# Altium schematic symbol library kmilo17pet-TI_RS232.SchLib: 1272 symbols (part 21 of 37)
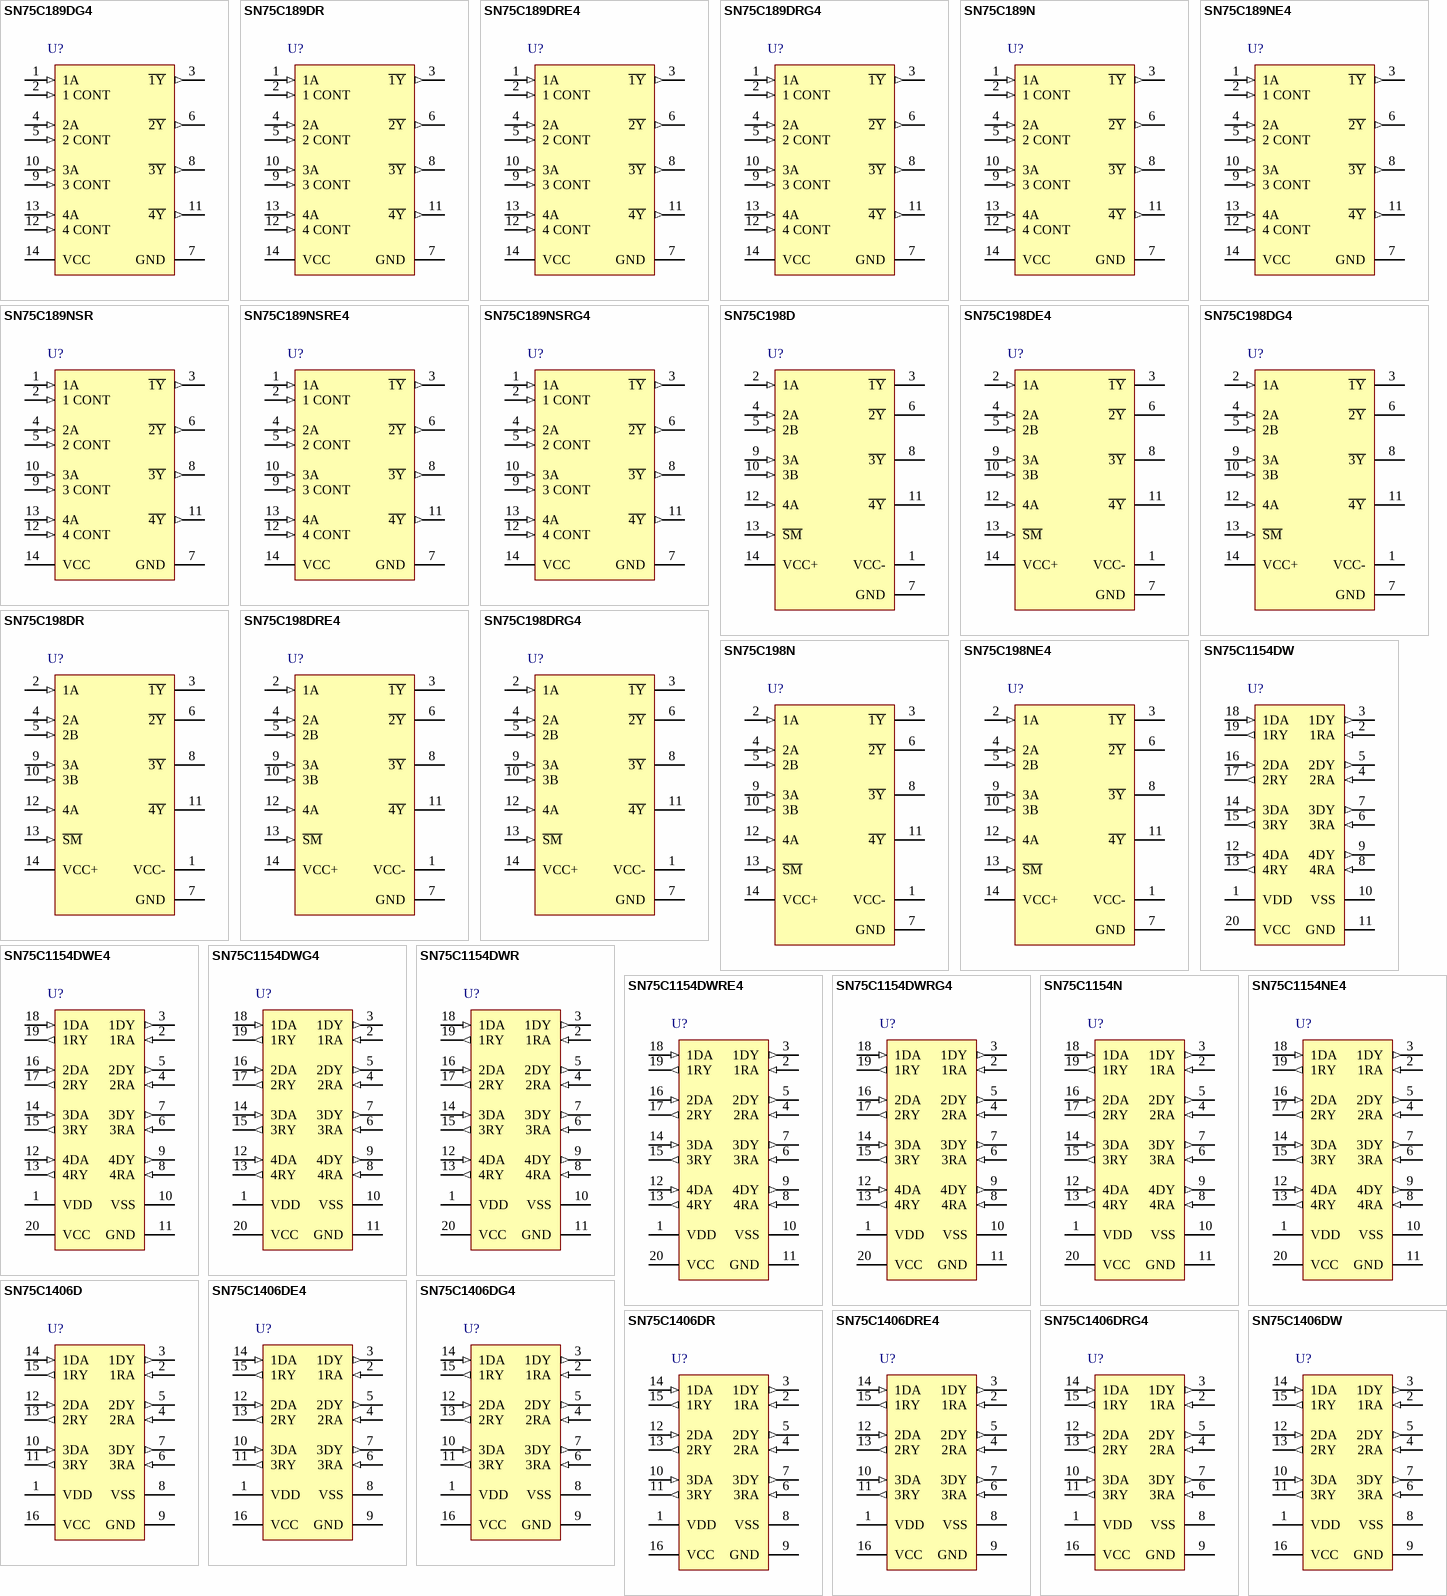
[diagram p74: symbols SN75C189DG4 to SN75C1406DW]

## SN75C189N
designator U?
Quadruple Low-Power LIine Receiver, 0 to 70 degC, 14-Pin  PDIP (N),  Pb-Free (RoHS); SubFamily: RS-232; Receivers Per Package: 4; Supply Voltage(s)(V): 5; ICC(Max)(mA): 0.7; Single Supply: TRUE; DatasheetVersion: SLLS041G; PackageVersion: revE, Dec-2002; PackageReference: N14; PackageDescription: 14-Pin Plastic Dual-In-Line Package, Row Spacing 7.62 mm, Pitch 2.54 mm; RS-232: TRUE; ComponentLink1Description: Manufacturer URL; ComponentLink1URL: www.ti.com; ComponentLink2Description: Datasheet; ComponentLink2URL: http://www.ti.com/general/docs/lit/getliterature.tsp?genericPartNumber=SN75C189&fileType=pdf; ComponentLink3Description: Package Specification; ComponentLink3URL: http://www.ti.com/litv/pdf/mpdi002c
footprint TI-N14 (DIP, 14-Leads, Row Spacing 7.62mm, Pitch 2.54mm, Body 19.3x6.4mm)
pins: 1 1A (in), 2 1 CONT (in), 3 ~{1Y} (out), 4 2A (in), 5 2 CONT (in), 6 ~{2Y} (out), 7 GND (power), 8 ~{3Y} (out), 9 3 CONT (in), 10 3A (in), 11 ~{4Y} (out), 12 4 CONT (in), 13 4A (in), 14 VCC (power)

## SN75C189NE4
designator U?
Quadruple Low-Power LIine Receiver, 0 to 70 degC, 14-Pin  PDIP (N),  Pb-Free (RoHS); SubFamily: RS-232; Receivers Per Package: 4; Supply Voltage(s)(V): 5; ICC(Max)(mA): 0.7; Single Supply: TRUE; DatasheetVersion: SLLS041G; PackageVersion: revE, Dec-2002; PackageReference: N14; PackageDescription: 14-Pin Plastic Dual-In-Line Package, Row Spacing 7.62 mm, Pitch 2.54 mm; RS-232: TRUE; ComponentLink1Description: Manufacturer URL; ComponentLink1URL: www.ti.com; ComponentLink2Description: Datasheet; ComponentLink2URL: http://www.ti.com/general/docs/lit/getliterature.tsp?genericPartNumber=SN75C189&fileType=pdf; ComponentLink3Description: Package Specification; ComponentLink3URL: http://www.ti.com/litv/pdf/mpdi002c
footprint TI-N14 (DIP, 14-Leads, Row Spacing 7.62mm, Pitch 2.54mm, Body 19.3x6.4mm)
pins: 1 1A (in), 2 1 CONT (in), 3 ~{1Y} (out), 4 2A (in), 5 2 CONT (in), 6 ~{2Y} (out), 7 GND (power), 8 ~{3Y} (out), 9 3 CONT (in), 10 3A (in), 11 ~{4Y} (out), 12 4 CONT (in), 13 4A (in), 14 VCC (power)

## SN75C189NSR
designator U?
Quadruple Low-Power LIine Receiver, 0 to 70 degC, 14-Pin  SO (NS),  Green (RoHS & no Sb/Br); SubFamily: RS-232; Receivers Per Package: 4; Supply Voltage(s)(V): 5; ICC(Max)(mA): 0.7; Single Supply: TRUE; DatasheetVersion: SLLS041G; PackageVersion: revC, Mar-2003; PackageReference: NS14; PackageDescription: 14-Pin Plastic Small Outline Package, 10.2 x 5.3 mm Body, 1.27 mm Pitch; RS-232: TRUE; ComponentLink1Description: Manufacturer URL; ComponentLink1URL: www.ti.com; ComponentLink2Description: Datasheet; ComponentLink2URL: http://www.ti.com/general/docs/lit/getliterature.tsp?genericPartNumber=SN75C189&fileType=pdf; ComponentLink3Description: Package Specification; ComponentLink3URL: http://www.ti.com/litv/pdf/msop002a
footprint TI-NS14_N (SOP, 14-Leads, Body 10.2x5.3mm, Pitch 1.27mm, IPC Medium Density)
footprint TI-NS14_L (SOP, 14-Leads, Body 10.2x5.3mm, Pitch 1.27mm, IPC High Density)
footprint TI-NS14_M (SOP, 14-Leads, Body 10.2x5.3mm, Pitch 1.27mm, IPC Low Density)
pins: 1 1A (in), 2 1 CONT (in), 3 ~{1Y} (out), 4 2A (in), 5 2 CONT (in), 6 ~{2Y} (out), 7 GND (power), 8 ~{3Y} (out), 9 3 CONT (in), 10 3A (in), 11 ~{4Y} (out), 12 4 CONT (in), 13 4A (in), 14 VCC (power)

## SN75C189NSRE4
designator U?
Quadruple Low-Power LIine Receiver, 0 to 70 degC, 14-Pin  SO (NS),  Green (RoHS & no Sb/Br); SubFamily: RS-232; Receivers Per Package: 4; Supply Voltage(s)(V): 5; ICC(Max)(mA): 0.7; Single Supply: TRUE; DatasheetVersion: SLLS041G; PackageVersion: revC, Mar-2003; PackageReference: NS14; PackageDescription: 14-Pin Plastic Small Outline Package, 10.2 x 5.3 mm Body, 1.27 mm Pitch; RS-232: TRUE; ComponentLink1Description: Manufacturer URL; ComponentLink1URL: www.ti.com; ComponentLink2Description: Datasheet; ComponentLink2URL: http://www.ti.com/general/docs/lit/getliterature.tsp?genericPartNumber=SN75C189&fileType=pdf; ComponentLink3Description: Package Specification; ComponentLink3URL: http://www.ti.com/litv/pdf/msop002a
footprint TI-NS14_N (SOP, 14-Leads, Body 10.2x5.3mm, Pitch 1.27mm, IPC Medium Density)
footprint TI-NS14_L (SOP, 14-Leads, Body 10.2x5.3mm, Pitch 1.27mm, IPC High Density)
footprint TI-NS14_M (SOP, 14-Leads, Body 10.2x5.3mm, Pitch 1.27mm, IPC Low Density)
pins: 1 1A (in), 2 1 CONT (in), 3 ~{1Y} (out), 4 2A (in), 5 2 CONT (in), 6 ~{2Y} (out), 7 GND (power), 8 ~{3Y} (out), 9 3 CONT (in), 10 3A (in), 11 ~{4Y} (out), 12 4 CONT (in), 13 4A (in), 14 VCC (power)

## SN75C189NSRG4
designator U?
Quadruple Low-Power LIine Receiver, 0 to 70 degC, 14-Pin  SO (NS),  Green (RoHS & no Sb/Br); SubFamily: RS-232; Receivers Per Package: 4; Supply Voltage(s)(V): 5; ICC(Max)(mA): 0.7; Single Supply: TRUE; DatasheetVersion: SLLS041G; PackageVersion: revC, Mar-2003; PackageReference: NS14; PackageDescription: 14-Pin Plastic Small Outline Package, 10.2 x 5.3 mm Body, 1.27 mm Pitch; RS-232: TRUE; ComponentLink1Description: Manufacturer URL; ComponentLink1URL: www.ti.com; ComponentLink2Description: Datasheet; ComponentLink2URL: http://www.ti.com/general/docs/lit/getliterature.tsp?genericPartNumber=SN75C189&fileType=pdf; ComponentLink3Description: Package Specification; ComponentLink3URL: http://www.ti.com/litv/pdf/msop002a
footprint TI-NS14_N (SOP, 14-Leads, Body 10.2x5.3mm, Pitch 1.27mm, IPC Medium Density)
footprint TI-NS14_L (SOP, 14-Leads, Body 10.2x5.3mm, Pitch 1.27mm, IPC High Density)
footprint TI-NS14_M (SOP, 14-Leads, Body 10.2x5.3mm, Pitch 1.27mm, IPC Low Density)
pins: 1 1A (in), 2 1 CONT (in), 3 ~{1Y} (out), 4 2A (in), 5 2 CONT (in), 6 ~{2Y} (out), 7 GND (power), 8 ~{3Y} (out), 9 3 CONT (in), 10 3A (in), 11 ~{4Y} (out), 12 4 CONT (in), 13 4A (in), 14 VCC (power)

## SN75C198D
designator U?
Quadruple Low-Power Line Driver, 0 to 70 degC, 14-Pin  SOIC (D),  Green (RoHS & no Sb/Br); SubFamily: RS-232; Drivers Per Package: 4; Supply Voltage(s)(V): +/-12.0; ICC(Max)(mA): +/-0.16; RS-232: TRUE; DatasheetVersion: SLLS051C; PackageVersion: revM, Jun-2011; PackageReference: D14; PackageDescription: 14-Pin Plastic Small Outline Integrated Circuit, 8.7 x 3.9 mm, Pitch 1.27 mm Pitch; ComponentLink1Description: Manufacturer URL; ComponentLink1URL: www.ti.com; ComponentLink2Description: Datasheet; ComponentLink2URL: http://www.ti.com/general/docs/lit/getliterature.tsp?genericPartNumber=SN75C198&fileType=pdf; ComponentLink3Description: Package Specification; ComponentLink3URL: http://www.ti.com/litv/pdf/mpds177g
footprint TI-D14_N (SOIC, 14-Leads, Body 8.7x3.9mm, Pitch 1.27mm, IPC Medium Density)
footprint TI-D14_L (SOIC, 14-Leads, Body 8.7x3.9mm, Pitch 1.27mm, IPC High Density)
footprint TI-D14_M (SOIC, 14-Leads, Body 8.7x3.9mm, Pitch 1.27mm, IPC Low Density)
pins: 1 VCC- (power), 2 1A (in), 3 ~{1Y} (hiz), 4 2A (in), 5 2B (in), 6 ~{2Y} (hiz), 7 GND (power), 8 ~{3Y} (hiz), 9 3A (in), 10 3B (in), 11 ~{4Y} (hiz), 12 4A (in), 13 ~{SM} (in), 14 VCC+ (power)

## SN75C198DE4
designator U?
Quadruple Low-Power Line Driver, 0 to 70 degC, 14-Pin  SOIC (D),  Green (RoHS & no Sb/Br); SubFamily: RS-232; Drivers Per Package: 4; Supply Voltage(s)(V): +/-12.0; ICC(Max)(mA): +/-0.16; RS-232: TRUE; DatasheetVersion: SLLS051C; PackageVersion: revM, Jun-2011; PackageReference: D14; PackageDescription: 14-Pin Plastic Small Outline Integrated Circuit, 8.7 x 3.9 mm, Pitch 1.27 mm Pitch; ComponentLink1Description: Manufacturer URL; ComponentLink1URL: www.ti.com; ComponentLink2Description: Datasheet; ComponentLink2URL: http://www.ti.com/general/docs/lit/getliterature.tsp?genericPartNumber=SN75C198&fileType=pdf; ComponentLink3Description: Package Specification; ComponentLink3URL: http://www.ti.com/litv/pdf/mpds177g
footprint TI-D14_N (SOIC, 14-Leads, Body 8.7x3.9mm, Pitch 1.27mm, IPC Medium Density)
footprint TI-D14_L (SOIC, 14-Leads, Body 8.7x3.9mm, Pitch 1.27mm, IPC High Density)
footprint TI-D14_M (SOIC, 14-Leads, Body 8.7x3.9mm, Pitch 1.27mm, IPC Low Density)
pins: 1 VCC- (power), 2 1A (in), 3 ~{1Y} (hiz), 4 2A (in), 5 2B (in), 6 ~{2Y} (hiz), 7 GND (power), 8 ~{3Y} (hiz), 9 3A (in), 10 3B (in), 11 ~{4Y} (hiz), 12 4A (in), 13 ~{SM} (in), 14 VCC+ (power)

## SN75C198DG4
designator U?
Quadruple Low-Power Line Driver, 0 to 70 degC, 14-Pin  SOIC (D),  Green (RoHS & no Sb/Br); SubFamily: RS-232; Drivers Per Package: 4; Supply Voltage(s)(V): +/-12.0; ICC(Max)(mA): +/-0.16; RS-232: TRUE; DatasheetVersion: SLLS051C; PackageVersion: revM, Jun-2011; PackageReference: D14; PackageDescription: 14-Pin Plastic Small Outline Integrated Circuit, 8.7 x 3.9 mm, Pitch 1.27 mm Pitch; ComponentLink1Description: Manufacturer URL; ComponentLink1URL: www.ti.com; ComponentLink2Description: Datasheet; ComponentLink2URL: http://www.ti.com/general/docs/lit/getliterature.tsp?genericPartNumber=SN75C198&fileType=pdf; ComponentLink3Description: Package Specification; ComponentLink3URL: http://www.ti.com/litv/pdf/mpds177g
footprint TI-D14_N (SOIC, 14-Leads, Body 8.7x3.9mm, Pitch 1.27mm, IPC Medium Density)
footprint TI-D14_L (SOIC, 14-Leads, Body 8.7x3.9mm, Pitch 1.27mm, IPC High Density)
footprint TI-D14_M (SOIC, 14-Leads, Body 8.7x3.9mm, Pitch 1.27mm, IPC Low Density)
pins: 1 VCC- (power), 2 1A (in), 3 ~{1Y} (hiz), 4 2A (in), 5 2B (in), 6 ~{2Y} (hiz), 7 GND (power), 8 ~{3Y} (hiz), 9 3A (in), 10 3B (in), 11 ~{4Y} (hiz), 12 4A (in), 13 ~{SM} (in), 14 VCC+ (power)

## SN75C198DR
designator U?
Quadruple Low-Power Line Driver, 0 to 70 degC, 14-Pin  SOIC (D),  Green (RoHS & no Sb/Br); SubFamily: RS-232; Drivers Per Package: 4; Supply Voltage(s)(V): +/-12.0; ICC(Max)(mA): +/-0.16; RS-232: TRUE; DatasheetVersion: SLLS051C; PackageVersion: revM, Jun-2011; PackageReference: D14; PackageDescription: 14-Pin Plastic Small Outline Integrated Circuit, 8.7 x 3.9 mm, Pitch 1.27 mm Pitch; ComponentLink1Description: Manufacturer URL; ComponentLink1URL: www.ti.com; ComponentLink2Description: Datasheet; ComponentLink2URL: http://www.ti.com/general/docs/lit/getliterature.tsp?genericPartNumber=SN75C198&fileType=pdf; ComponentLink3Description: Package Specification; ComponentLink3URL: http://www.ti.com/litv/pdf/mpds177g
footprint TI-D14_N (SOIC, 14-Leads, Body 8.7x3.9mm, Pitch 1.27mm, IPC Medium Density)
footprint TI-D14_L (SOIC, 14-Leads, Body 8.7x3.9mm, Pitch 1.27mm, IPC High Density)
footprint TI-D14_M (SOIC, 14-Leads, Body 8.7x3.9mm, Pitch 1.27mm, IPC Low Density)
pins: 1 VCC- (power), 2 1A (in), 3 ~{1Y} (hiz), 4 2A (in), 5 2B (in), 6 ~{2Y} (hiz), 7 GND (power), 8 ~{3Y} (hiz), 9 3A (in), 10 3B (in), 11 ~{4Y} (hiz), 12 4A (in), 13 ~{SM} (in), 14 VCC+ (power)

## SN75C198DRE4
designator U?
Quadruple Low-Power Line Driver, 0 to 70 degC, 14-Pin  SOIC (D),  Green (RoHS & no Sb/Br); SubFamily: RS-232; Drivers Per Package: 4; Supply Voltage(s)(V): +/-12.0; ICC(Max)(mA): +/-0.16; RS-232: TRUE; DatasheetVersion: SLLS051C; PackageVersion: revM, Jun-2011; PackageReference: D14; PackageDescription: 14-Pin Plastic Small Outline Integrated Circuit, 8.7 x 3.9 mm, Pitch 1.27 mm Pitch; ComponentLink1Description: Manufacturer URL; ComponentLink1URL: www.ti.com; ComponentLink2Description: Datasheet; ComponentLink2URL: http://www.ti.com/general/docs/lit/getliterature.tsp?genericPartNumber=SN75C198&fileType=pdf; ComponentLink3Description: Package Specification; ComponentLink3URL: http://www.ti.com/litv/pdf/mpds177g
footprint TI-D14_N (SOIC, 14-Leads, Body 8.7x3.9mm, Pitch 1.27mm, IPC Medium Density)
footprint TI-D14_L (SOIC, 14-Leads, Body 8.7x3.9mm, Pitch 1.27mm, IPC High Density)
footprint TI-D14_M (SOIC, 14-Leads, Body 8.7x3.9mm, Pitch 1.27mm, IPC Low Density)
pins: 1 VCC- (power), 2 1A (in), 3 ~{1Y} (hiz), 4 2A (in), 5 2B (in), 6 ~{2Y} (hiz), 7 GND (power), 8 ~{3Y} (hiz), 9 3A (in), 10 3B (in), 11 ~{4Y} (hiz), 12 4A (in), 13 ~{SM} (in), 14 VCC+ (power)

## SN75C198DRG4
designator U?
Quadruple Low-Power Line Driver, 0 to 70 degC, 14-Pin  SOIC (D),  Green (RoHS & no Sb/Br); SubFamily: RS-232; Drivers Per Package: 4; Supply Voltage(s)(V): +/-12.0; ICC(Max)(mA): +/-0.16; RS-232: TRUE; DatasheetVersion: SLLS051C; PackageVersion: revM, Jun-2011; PackageReference: D14; PackageDescription: 14-Pin Plastic Small Outline Integrated Circuit, 8.7 x 3.9 mm, Pitch 1.27 mm Pitch; ComponentLink1Description: Manufacturer URL; ComponentLink1URL: www.ti.com; ComponentLink2Description: Datasheet; ComponentLink2URL: http://www.ti.com/general/docs/lit/getliterature.tsp?genericPartNumber=SN75C198&fileType=pdf; ComponentLink3Description: Package Specification; ComponentLink3URL: http://www.ti.com/litv/pdf/mpds177g
footprint TI-D14_N (SOIC, 14-Leads, Body 8.7x3.9mm, Pitch 1.27mm, IPC Medium Density)
footprint TI-D14_L (SOIC, 14-Leads, Body 8.7x3.9mm, Pitch 1.27mm, IPC High Density)
footprint TI-D14_M (SOIC, 14-Leads, Body 8.7x3.9mm, Pitch 1.27mm, IPC Low Density)
pins: 1 VCC- (power), 2 1A (in), 3 ~{1Y} (hiz), 4 2A (in), 5 2B (in), 6 ~{2Y} (hiz), 7 GND (power), 8 ~{3Y} (hiz), 9 3A (in), 10 3B (in), 11 ~{4Y} (hiz), 12 4A (in), 13 ~{SM} (in), 14 VCC+ (power)

## SN75C198N
designator U?
Quadruple Low-Power Line Driver, 0 to 70 degC, 14-Pin  PDIP (N),  Pb-Free (RoHS); SubFamily: RS-232; Drivers Per Package: 4; Supply Voltage(s)(V): +/-12.0; ICC(Max)(mA): +/-0.16; RS-232: TRUE; DatasheetVersion: SLLS051C; PackageVersion: revE, Dec-2002; PackageReference: N14; PackageDescription: 14-Pin Plastic Dual-In-Line Package, Row Spacing 7.62 mm, Pitch 2.54 mm; ComponentLink1Description: Manufacturer URL; ComponentLink1URL: www.ti.com; ComponentLink2Description: Datasheet; ComponentLink2URL: http://www.ti.com/general/docs/lit/getliterature.tsp?genericPartNumber=SN75C198&fileType=pdf; ComponentLink3Description: Package Specification; ComponentLink3URL: http://www.ti.com/litv/pdf/mpdi002c
footprint TI-N14 (DIP, 14-Leads, Row Spacing 7.62mm, Pitch 2.54mm, Body 19.3x6.4mm)
pins: 1 VCC- (power), 2 1A (in), 3 ~{1Y} (hiz), 4 2A (in), 5 2B (in), 6 ~{2Y} (hiz), 7 GND (power), 8 ~{3Y} (hiz), 9 3A (in), 10 3B (in), 11 ~{4Y} (hiz), 12 4A (in), 13 ~{SM} (in), 14 VCC+ (power)

## SN75C198NE4
designator U?
Quadruple Low-Power Line Driver, 0 to 70 degC, 14-Pin  PDIP (N),  Pb-Free (RoHS); SubFamily: RS-232; Drivers Per Package: 4; Supply Voltage(s)(V): +/-12.0; ICC(Max)(mA): +/-0.16; RS-232: TRUE; DatasheetVersion: SLLS051C; PackageVersion: revE, Dec-2002; PackageReference: N14; PackageDescription: 14-Pin Plastic Dual-In-Line Package, Row Spacing 7.62 mm, Pitch 2.54 mm; ComponentLink1Description: Manufacturer URL; ComponentLink1URL: www.ti.com; ComponentLink2Description: Datasheet; ComponentLink2URL: http://www.ti.com/general/docs/lit/getliterature.tsp?genericPartNumber=SN75C198&fileType=pdf; ComponentLink3Description: Package Specification; ComponentLink3URL: http://www.ti.com/litv/pdf/mpdi002c
footprint TI-N14 (DIP, 14-Leads, Row Spacing 7.62mm, Pitch 2.54mm, Body 19.3x6.4mm)
pins: 1 VCC- (power), 2 1A (in), 3 ~{1Y} (hiz), 4 2A (in), 5 2B (in), 6 ~{2Y} (hiz), 7 GND (power), 8 ~{3Y} (hiz), 9 3A (in), 10 3B (in), 11 ~{4Y} (hiz), 12 4A (in), 13 ~{SM} (in), 14 VCC+ (power)

## SN75C1154DW
designator U?
Quadruple Low-Power Driver / Receiver, 0 to 70 degC, 20-Pin SOIC (DW), Green (RoHS & no Sb/Br); SubFamily: RS-232; Drivers Per Package: 4; Supply Voltage(s)(V): +/-12.0 & 5.0; ICC(Max)(mA): +/-0.25; RS-232: TRUE; DatasheetVersion: SLLS151D; PackageVersion: revG, Jan-2011; PackageReference: DW20; PackageDescription: 20-Pin Plastic Small Outline Integrated Circuit, 12.8 x 7.5 mm, Pitch 1.27 mm Pitch; Receivers Per Package: 4; ComponentLink1Description: Manufacturer URL; ComponentLink1URL: www.ti.com; ComponentLink2Description: Datasheet; ComponentLink2URL: http://www.ti.com/general/docs/lit/getliterature.tsp?genericPartNumber=SN75C1154&fileType=pdf; ComponentLink3Description: Package Specification; ComponentLink3URL: http://www.ti.com/litv/pdf/mpds173a
footprint TI-DW20_N (SOIC, 20-Leads, Body 12.8x7.5mm, Pitch 1.27mm, IPC Medium Density)
footprint TI-DW20_L (SOIC, 20-Leads, Body 12.8x7.5mm, Pitch 1.27mm, IPC High Density)
footprint TI-DW20_M (SOIC, 20-Leads, Body 12.8x7.5mm, Pitch 1.27mm, IPC Low Density)
pins: 1 VDD (power), 2 1RA (in), 3 1DY (out), 4 2RA (in), 5 2DY (out), 6 3RA (in), 7 3DY (out), 8 4RA (in), 9 4DY (out), 10 VSS (power), 11 GND (power), 12 4DA (in), 13 4RY (out), 14 3DA (in), 15 3RY (out), 16 2DA (in), 17 2RY (out), 18 1DA (in), 19 1RY (out), 20 VCC (power)

## SN75C1154DWE4
designator U?
Quadruple Low-Power Driver / Receiver, 0 to 70 degC, 20-Pin SOIC (DW), Green (RoHS & no Sb/Br); SubFamily: RS-232; Drivers Per Package: 4; Supply Voltage(s)(V): +/-12.0 & 5.0; ICC(Max)(mA): +/-0.25; RS-232: TRUE; DatasheetVersion: SLLS151D; PackageVersion: revG, Jan-2011; PackageReference: DW20; PackageDescription: 20-Pin Plastic Small Outline Integrated Circuit, 12.8 x 7.5 mm, Pitch 1.27 mm Pitch; Receivers Per Package: 4; ComponentLink1Description: Manufacturer URL; ComponentLink1URL: www.ti.com; ComponentLink2Description: Datasheet; ComponentLink2URL: http://www.ti.com/general/docs/lit/getliterature.tsp?genericPartNumber=SN75C1154&fileType=pdf; ComponentLink3Description: Package Specification; ComponentLink3URL: http://www.ti.com/litv/pdf/mpds173a
footprint TI-DW20_N (SOIC, 20-Leads, Body 12.8x7.5mm, Pitch 1.27mm, IPC Medium Density)
footprint TI-DW20_L (SOIC, 20-Leads, Body 12.8x7.5mm, Pitch 1.27mm, IPC High Density)
footprint TI-DW20_M (SOIC, 20-Leads, Body 12.8x7.5mm, Pitch 1.27mm, IPC Low Density)
pins: 1 VDD (power), 2 1RA (in), 3 1DY (out), 4 2RA (in), 5 2DY (out), 6 3RA (in), 7 3DY (out), 8 4RA (in), 9 4DY (out), 10 VSS (power), 11 GND (power), 12 4DA (in), 13 4RY (out), 14 3DA (in), 15 3RY (out), 16 2DA (in), 17 2RY (out), 18 1DA (in), 19 1RY (out), 20 VCC (power)

## SN75C1154DWG4
designator U?
Quadruple Low-Power Driver / Receiver, 0 to 70 degC, 20-Pin SOIC (DW), Green (RoHS & no Sb/Br); SubFamily: RS-232; Drivers Per Package: 4; Supply Voltage(s)(V): +/-12.0 & 5.0; ICC(Max)(mA): +/-0.25; RS-232: TRUE; DatasheetVersion: SLLS151D; PackageVersion: revG, Jan-2011; PackageReference: DW20; PackageDescription: 20-Pin Plastic Small Outline Integrated Circuit, 12.8 x 7.5 mm, Pitch 1.27 mm Pitch; Receivers Per Package: 4; ComponentLink1Description: Manufacturer URL; ComponentLink1URL: www.ti.com; ComponentLink2Description: Datasheet; ComponentLink2URL: http://www.ti.com/general/docs/lit/getliterature.tsp?genericPartNumber=SN75C1154&fileType=pdf; ComponentLink3Description: Package Specification; ComponentLink3URL: http://www.ti.com/litv/pdf/mpds173a
footprint TI-DW20_N (SOIC, 20-Leads, Body 12.8x7.5mm, Pitch 1.27mm, IPC Medium Density)
footprint TI-DW20_L (SOIC, 20-Leads, Body 12.8x7.5mm, Pitch 1.27mm, IPC High Density)
footprint TI-DW20_M (SOIC, 20-Leads, Body 12.8x7.5mm, Pitch 1.27mm, IPC Low Density)
pins: 1 VDD (power), 2 1RA (in), 3 1DY (out), 4 2RA (in), 5 2DY (out), 6 3RA (in), 7 3DY (out), 8 4RA (in), 9 4DY (out), 10 VSS (power), 11 GND (power), 12 4DA (in), 13 4RY (out), 14 3DA (in), 15 3RY (out), 16 2DA (in), 17 2RY (out), 18 1DA (in), 19 1RY (out), 20 VCC (power)

## SN75C1154DWR
designator U?
Quadruple Low-Power Driver / Receiver, 0 to 70 degC, 20-Pin SOIC (DW), Green (RoHS & no Sb/Br); SubFamily: RS-232; Drivers Per Package: 4; Supply Voltage(s)(V): +/-12.0 & 5.0; ICC(Max)(mA): +/-0.25; RS-232: TRUE; DatasheetVersion: SLLS151D; PackageVersion: revG, Jan-2011; PackageReference: DW20; PackageDescription: 20-Pin Plastic Small Outline Integrated Circuit, 12.8 x 7.5 mm, Pitch 1.27 mm Pitch; Receivers Per Package: 4; ComponentLink1Description: Manufacturer URL; ComponentLink1URL: www.ti.com; ComponentLink2Description: Datasheet; ComponentLink2URL: http://www.ti.com/general/docs/lit/getliterature.tsp?genericPartNumber=SN75C1154&fileType=pdf; ComponentLink3Description: Package Specification; ComponentLink3URL: http://www.ti.com/litv/pdf/mpds173a
footprint TI-DW20_N (SOIC, 20-Leads, Body 12.8x7.5mm, Pitch 1.27mm, IPC Medium Density)
footprint TI-DW20_L (SOIC, 20-Leads, Body 12.8x7.5mm, Pitch 1.27mm, IPC High Density)
footprint TI-DW20_M (SOIC, 20-Leads, Body 12.8x7.5mm, Pitch 1.27mm, IPC Low Density)
pins: 1 VDD (power), 2 1RA (in), 3 1DY (out), 4 2RA (in), 5 2DY (out), 6 3RA (in), 7 3DY (out), 8 4RA (in), 9 4DY (out), 10 VSS (power), 11 GND (power), 12 4DA (in), 13 4RY (out), 14 3DA (in), 15 3RY (out), 16 2DA (in), 17 2RY (out), 18 1DA (in), 19 1RY (out), 20 VCC (power)

## SN75C1154DWRE4
designator U?
Quadruple Low-Power Driver / Receiver, 0 to 70 degC, 20-Pin SOIC (DW), Green (RoHS & no Sb/Br); SubFamily: RS-232; Drivers Per Package: 4; Supply Voltage(s)(V): +/-12.0 & 5.0; ICC(Max)(mA): +/-0.25; RS-232: TRUE; DatasheetVersion: SLLS151D; PackageVersion: revG, Jan-2011; PackageReference: DW20; PackageDescription: 20-Pin Plastic Small Outline Integrated Circuit, 12.8 x 7.5 mm, Pitch 1.27 mm Pitch; Receivers Per Package: 4; ComponentLink1Description: Manufacturer URL; ComponentLink1URL: www.ti.com; ComponentLink2Description: Datasheet; ComponentLink2URL: http://www.ti.com/general/docs/lit/getliterature.tsp?genericPartNumber=SN75C1154&fileType=pdf; ComponentLink3Description: Package Specification; ComponentLink3URL: http://www.ti.com/litv/pdf/mpds173a
footprint TI-DW20_N (SOIC, 20-Leads, Body 12.8x7.5mm, Pitch 1.27mm, IPC Medium Density)
footprint TI-DW20_L (SOIC, 20-Leads, Body 12.8x7.5mm, Pitch 1.27mm, IPC High Density)
footprint TI-DW20_M (SOIC, 20-Leads, Body 12.8x7.5mm, Pitch 1.27mm, IPC Low Density)
pins: 1 VDD (power), 2 1RA (in), 3 1DY (out), 4 2RA (in), 5 2DY (out), 6 3RA (in), 7 3DY (out), 8 4RA (in), 9 4DY (out), 10 VSS (power), 11 GND (power), 12 4DA (in), 13 4RY (out), 14 3DA (in), 15 3RY (out), 16 2DA (in), 17 2RY (out), 18 1DA (in), 19 1RY (out), 20 VCC (power)

## SN75C1154DWRG4
designator U?
Quadruple Low-Power Driver / Receiver, 0 to 70 degC, 20-Pin SOIC (DW), Green (RoHS & no Sb/Br); SubFamily: RS-232; Drivers Per Package: 4; Supply Voltage(s)(V): +/-12.0 & 5.0; ICC(Max)(mA): +/-0.25; RS-232: TRUE; DatasheetVersion: SLLS151D; PackageVersion: revG, Jan-2011; PackageReference: DW20; PackageDescription: 20-Pin Plastic Small Outline Integrated Circuit, 12.8 x 7.5 mm, Pitch 1.27 mm Pitch; Receivers Per Package: 4; ComponentLink1Description: Manufacturer URL; ComponentLink1URL: www.ti.com; ComponentLink2Description: Datasheet; ComponentLink2URL: http://www.ti.com/general/docs/lit/getliterature.tsp?genericPartNumber=SN75C1154&fileType=pdf; ComponentLink3Description: Package Specification; ComponentLink3URL: http://www.ti.com/litv/pdf/mpds173a
footprint TI-DW20_N (SOIC, 20-Leads, Body 12.8x7.5mm, Pitch 1.27mm, IPC Medium Density)
footprint TI-DW20_L (SOIC, 20-Leads, Body 12.8x7.5mm, Pitch 1.27mm, IPC High Density)
footprint TI-DW20_M (SOIC, 20-Leads, Body 12.8x7.5mm, Pitch 1.27mm, IPC Low Density)
pins: 1 VDD (power), 2 1RA (in), 3 1DY (out), 4 2RA (in), 5 2DY (out), 6 3RA (in), 7 3DY (out), 8 4RA (in), 9 4DY (out), 10 VSS (power), 11 GND (power), 12 4DA (in), 13 4RY (out), 14 3DA (in), 15 3RY (out), 16 2DA (in), 17 2RY (out), 18 1DA (in), 19 1RY (out), 20 VCC (power)

## SN75C1154N
designator U?
Quadruple Low-Power Driver / Receiver, 0 to 70 degC, 20-Pin PDIP (N), Pb-Free (RoHS); SubFamily: RS-232; Drivers Per Package: 4; Supply Voltage(s)(V): +/-12.0 & 5.0; ICC(Max)(mA): +/-0.25; RS-232: TRUE; DatasheetVersion: SLLS151D; PackageVersion: revE, Dec-2002; PackageReference: N20; PackageDescription: 20-Pin Plastic Dual-In-Line Package, Row Spacing 7.62 mm, Pitch 2.54 mm; Receivers Per Package: 4; ComponentLink1Description: Manufacturer URL; ComponentLink1URL: www.ti.com; ComponentLink2Description: Datasheet; ComponentLink2URL: http://www.ti.com/general/docs/lit/getliterature.tsp?genericPartNumber=SN75C1154&fileType=pdf; ComponentLink3Description: Package Specification; ComponentLink3URL: http://www.ti.com/litv/pdf/mpdi002c
footprint TI-N20 (DIP, 20-Leads, Row Spacing 7.62mm, Pitch 2.54mm, Body 25.4x6.4mm)
pins: 1 VDD (power), 2 1RA (in), 3 1DY (out), 4 2RA (in), 5 2DY (out), 6 3RA (in), 7 3DY (out), 8 4RA (in), 9 4DY (out), 10 VSS (power), 11 GND (power), 12 4DA (in), 13 4RY (out), 14 3DA (in), 15 3RY (out), 16 2DA (in), 17 2RY (out), 18 1DA (in), 19 1RY (out), 20 VCC (power)

## SN75C1154NE4
designator U?
Quadruple Low-Power Driver / Receiver, 0 to 70 degC, 20-Pin PDIP (N), Pb-Free (RoHS); SubFamily: RS-232; Drivers Per Package: 4; Supply Voltage(s)(V): +/-12.0 & 5.0; ICC(Max)(mA): +/-0.25; RS-232: TRUE; DatasheetVersion: SLLS151D; PackageVersion: revE, Dec-2002; PackageReference: N20; PackageDescription: 20-Pin Plastic Dual-In-Line Package, Row Spacing 7.62 mm, Pitch 2.54 mm; Receivers Per Package: 4; ComponentLink1Description: Manufacturer URL; ComponentLink1URL: www.ti.com; ComponentLink2Description: Datasheet; ComponentLink2URL: http://www.ti.com/general/docs/lit/getliterature.tsp?genericPartNumber=SN75C1154&fileType=pdf; ComponentLink3Description: Package Specification; ComponentLink3URL: http://www.ti.com/litv/pdf/mpdi002c
footprint TI-N20 (DIP, 20-Leads, Row Spacing 7.62mm, Pitch 2.54mm, Body 25.4x6.4mm)
pins: 1 VDD (power), 2 1RA (in), 3 1DY (out), 4 2RA (in), 5 2DY (out), 6 3RA (in), 7 3DY (out), 8 4RA (in), 9 4DY (out), 10 VSS (power), 11 GND (power), 12 4DA (in), 13 4RY (out), 14 3DA (in), 15 3RY (out), 16 2DA (in), 17 2RY (out), 18 1DA (in), 19 1RY (out), 20 VCC (power)

## SN75C1406D
designator U?
Triple Low-Power Driver / Receiver, 0 to 70 degC, 16-Pin SOIC (D), Green (RoHS & no Sb/Br); SubFamily: RS-232; Drivers Per Package: 3; Supply Voltage(s)(V): +/-12.0 & 5.0; ESD HBM(kV): +/-2; ICC(Max)(mA): +/-0.25; RS-232: TRUE; DatasheetVersion: SLLS148E; PackageVersion: revM, Jun-2011; PackageReference: D16; PackageDescription: 16-Pin Plastic Small Outline Integrated Circuit, 9.9 x 3.9 mm, Pitch 1.27 mm Pitch; Receivers Per Package: 3; ComponentLink1Description: Manufacturer URL; ComponentLink1URL: www.ti.com; ComponentLink2Description: Datasheet; ComponentLink2URL: http://www.ti.com/general/docs/lit/getliterature.tsp?genericPartNumber=SN75C1406&fileType=pdf; ComponentLink3Description: Package Specification; ComponentLink3URL: http://www.ti.com/litv/pdf/mpds177g
footprint TI-D16_N (SOIC, 16-Leads, Body 9.9x3.9mm, Pitch 1.27mm, IPC Medium Density)
footprint TI-D16_L (SOIC, 16-Leads, Body 9.9x3.9mm, Pitch 1.27mm, IPC High Density)
footprint TI-D16_M (SOIC, 16-Leads, Body 9.9x3.9mm, Pitch 1.27mm, IPC Low Density)
pins: 1 VDD (power), 2 1RA (in), 3 1DY (out), 4 2RA (in), 5 2DY (out), 6 3RA (in), 7 3DY (out), 8 VSS (power), 9 GND (power), 10 3DA (in), 11 3RY (out), 12 2DA (in), 13 2RY (out), 14 1DA (in), 15 1RY (out), 16 VCC (power)

## SN75C1406DE4
designator U?
Triple Low-Power Driver / Receiver, 0 to 70 degC, 16-Pin SOIC (D), Green (RoHS & no Sb/Br); SubFamily: RS-232; Drivers Per Package: 3; Supply Voltage(s)(V): +/-12.0 & 5.0; ESD HBM(kV): +/-2; ICC(Max)(mA): +/-0.25; RS-232: TRUE; DatasheetVersion: SLLS148E; PackageVersion: revM, Jun-2011; PackageReference: D16; PackageDescription: 16-Pin Plastic Small Outline Integrated Circuit, 9.9 x 3.9 mm, Pitch 1.27 mm Pitch; Receivers Per Package: 3; ComponentLink1Description: Manufacturer URL; ComponentLink1URL: www.ti.com; ComponentLink2Description: Datasheet; ComponentLink2URL: http://www.ti.com/general/docs/lit/getliterature.tsp?genericPartNumber=SN75C1406&fileType=pdf; ComponentLink3Description: Package Specification; ComponentLink3URL: http://www.ti.com/litv/pdf/mpds177g
footprint TI-D16_N (SOIC, 16-Leads, Body 9.9x3.9mm, Pitch 1.27mm, IPC Medium Density)
footprint TI-D16_L (SOIC, 16-Leads, Body 9.9x3.9mm, Pitch 1.27mm, IPC High Density)
footprint TI-D16_M (SOIC, 16-Leads, Body 9.9x3.9mm, Pitch 1.27mm, IPC Low Density)
pins: 1 VDD (power), 2 1RA (in), 3 1DY (out), 4 2RA (in), 5 2DY (out), 6 3RA (in), 7 3DY (out), 8 VSS (power), 9 GND (power), 10 3DA (in), 11 3RY (out), 12 2DA (in), 13 2RY (out), 14 1DA (in), 15 1RY (out), 16 VCC (power)

## SN75C1406DG4
designator U?
Triple Low-Power Driver / Receiver, 0 to 70 degC, 16-Pin SOIC (D), Green (RoHS & no Sb/Br); SubFamily: RS-232; Drivers Per Package: 3; Supply Voltage(s)(V): +/-12.0 & 5.0; ESD HBM(kV): +/-2; ICC(Max)(mA): +/-0.25; RS-232: TRUE; DatasheetVersion: SLLS148E; PackageVersion: revM, Jun-2011; PackageReference: D16; PackageDescription: 16-Pin Plastic Small Outline Integrated Circuit, 9.9 x 3.9 mm, Pitch 1.27 mm Pitch; Receivers Per Package: 3; ComponentLink1Description: Manufacturer URL; ComponentLink1URL: www.ti.com; ComponentLink2Description: Datasheet; ComponentLink2URL: http://www.ti.com/general/docs/lit/getliterature.tsp?genericPartNumber=SN75C1406&fileType=pdf; ComponentLink3Description: Package Specification; ComponentLink3URL: http://www.ti.com/litv/pdf/mpds177g
footprint TI-D16_N (SOIC, 16-Leads, Body 9.9x3.9mm, Pitch 1.27mm, IPC Medium Density)
footprint TI-D16_L (SOIC, 16-Leads, Body 9.9x3.9mm, Pitch 1.27mm, IPC High Density)
footprint TI-D16_M (SOIC, 16-Leads, Body 9.9x3.9mm, Pitch 1.27mm, IPC Low Density)
pins: 1 VDD (power), 2 1RA (in), 3 1DY (out), 4 2RA (in), 5 2DY (out), 6 3RA (in), 7 3DY (out), 8 VSS (power), 9 GND (power), 10 3DA (in), 11 3RY (out), 12 2DA (in), 13 2RY (out), 14 1DA (in), 15 1RY (out), 16 VCC (power)

## SN75C1406DR
designator U?
Triple Low-Power Driver / Receiver, 0 to 70 degC, 16-Pin SOIC (D), Green (RoHS & no Sb/Br); SubFamily: RS-232; Drivers Per Package: 3; Supply Voltage(s)(V): +/-12.0 & 5.0; ESD HBM(kV): +/-2; ICC(Max)(mA): +/-0.25; RS-232: TRUE; DatasheetVersion: SLLS148E; PackageVersion: revM, Jun-2011; PackageReference: D16; PackageDescription: 16-Pin Plastic Small Outline Integrated Circuit, 9.9 x 3.9 mm, Pitch 1.27 mm Pitch; Receivers Per Package: 3; ComponentLink1Description: Manufacturer URL; ComponentLink1URL: www.ti.com; ComponentLink2Description: Datasheet; ComponentLink2URL: http://www.ti.com/general/docs/lit/getliterature.tsp?genericPartNumber=SN75C1406&fileType=pdf; ComponentLink3Description: Package Specification; ComponentLink3URL: http://www.ti.com/litv/pdf/mpds177g
footprint TI-D16_N (SOIC, 16-Leads, Body 9.9x3.9mm, Pitch 1.27mm, IPC Medium Density)
footprint TI-D16_L (SOIC, 16-Leads, Body 9.9x3.9mm, Pitch 1.27mm, IPC High Density)
footprint TI-D16_M (SOIC, 16-Leads, Body 9.9x3.9mm, Pitch 1.27mm, IPC Low Density)
pins: 1 VDD (power), 2 1RA (in), 3 1DY (out), 4 2RA (in), 5 2DY (out), 6 3RA (in), 7 3DY (out), 8 VSS (power), 9 GND (power), 10 3DA (in), 11 3RY (out), 12 2DA (in), 13 2RY (out), 14 1DA (in), 15 1RY (out), 16 VCC (power)

## SN75C1406DRE4
designator U?
Triple Low-Power Driver / Receiver, 0 to 70 degC, 16-Pin SOIC (D), Green (RoHS & no Sb/Br); SubFamily: RS-232; Drivers Per Package: 3; Supply Voltage(s)(V): +/-12.0 & 5.0; ESD HBM(kV): +/-2; ICC(Max)(mA): +/-0.25; RS-232: TRUE; DatasheetVersion: SLLS148E; PackageVersion: revM, Jun-2011; PackageReference: D16; PackageDescription: 16-Pin Plastic Small Outline Integrated Circuit, 9.9 x 3.9 mm, Pitch 1.27 mm Pitch; Receivers Per Package: 3; ComponentLink1Description: Manufacturer URL; ComponentLink1URL: www.ti.com; ComponentLink2Description: Datasheet; ComponentLink2URL: http://www.ti.com/general/docs/lit/getliterature.tsp?genericPartNumber=SN75C1406&fileType=pdf; ComponentLink3Description: Package Specification; ComponentLink3URL: http://www.ti.com/litv/pdf/mpds177g
footprint TI-D16_N (SOIC, 16-Leads, Body 9.9x3.9mm, Pitch 1.27mm, IPC Medium Density)
footprint TI-D16_L (SOIC, 16-Leads, Body 9.9x3.9mm, Pitch 1.27mm, IPC High Density)
footprint TI-D16_M (SOIC, 16-Leads, Body 9.9x3.9mm, Pitch 1.27mm, IPC Low Density)
pins: 1 VDD (power), 2 1RA (in), 3 1DY (out), 4 2RA (in), 5 2DY (out), 6 3RA (in), 7 3DY (out), 8 VSS (power), 9 GND (power), 10 3DA (in), 11 3RY (out), 12 2DA (in), 13 2RY (out), 14 1DA (in), 15 1RY (out), 16 VCC (power)

## SN75C1406DRG4
designator U?
Triple Low-Power Driver / Receiver, 0 to 70 degC, 16-Pin SOIC (D), Green (RoHS & no Sb/Br); SubFamily: RS-232; Drivers Per Package: 3; Supply Voltage(s)(V): +/-12.0 & 5.0; ESD HBM(kV): +/-2; ICC(Max)(mA): +/-0.25; RS-232: TRUE; DatasheetVersion: SLLS148E; PackageVersion: revM, Jun-2011; PackageReference: D16; PackageDescription: 16-Pin Plastic Small Outline Integrated Circuit, 9.9 x 3.9 mm, Pitch 1.27 mm Pitch; Receivers Per Package: 3; ComponentLink1Description: Manufacturer URL; ComponentLink1URL: www.ti.com; ComponentLink2Description: Datasheet; ComponentLink2URL: http://www.ti.com/general/docs/lit/getliterature.tsp?genericPartNumber=SN75C1406&fileType=pdf; ComponentLink3Description: Package Specification; ComponentLink3URL: http://www.ti.com/litv/pdf/mpds177g
footprint TI-D16_N (SOIC, 16-Leads, Body 9.9x3.9mm, Pitch 1.27mm, IPC Medium Density)
footprint TI-D16_L (SOIC, 16-Leads, Body 9.9x3.9mm, Pitch 1.27mm, IPC High Density)
footprint TI-D16_M (SOIC, 16-Leads, Body 9.9x3.9mm, Pitch 1.27mm, IPC Low Density)
pins: 1 VDD (power), 2 1RA (in), 3 1DY (out), 4 2RA (in), 5 2DY (out), 6 3RA (in), 7 3DY (out), 8 VSS (power), 9 GND (power), 10 3DA (in), 11 3RY (out), 12 2DA (in), 13 2RY (out), 14 1DA (in), 15 1RY (out), 16 VCC (power)

## SN75C1406DW
designator U?
Triple Low-Power Driver / Receiver, 0 to 70 degC, 16-Pin SOIC (DW), Green (RoHS & no Sb/Br); SubFamily: RS-232; Drivers Per Package: 3; Supply Voltage(s)(V): +/-12.0 & 5.0; ESD HBM(kV): +/-2; ICC(Max)(mA): +/-0.25; RS-232: TRUE; DatasheetVersion: SLLS148E; PackageVersion: revG, Jan-2011; PackageReference: DW16; PackageDescription: 16-Pin Small Outline Integrated Circuit, 10.3 x 7.5 mm, Pitch 1.27 mm Pitch; Receivers Per Package: 3; ComponentLink1Description: Manufacturer URL; ComponentLink1URL: www.ti.com; ComponentLink2Description: Datasheet; ComponentLink2URL: http://www.ti.com/general/docs/lit/getliterature.tsp?genericPartNumber=SN75C1406&fileType=pdf; ComponentLink3Description: Package Specification; ComponentLink3URL: http://www.ti.com/litv/pdf/mpds173a
footprint TI-DW16_N (SOIC, 16-Leads, Body 10.3x7.5mm, Pitch 1.27mm, IPC Medium Density)
footprint TI-DW16_L (SOIC, 16-Leads, Body 10.3x7.5mm, Pitch 1.27mm, IPC High Density)
footprint TI-DW16_M (SOIC, 16-Leads, Body 10.3x7.5mm, Pitch 1.27mm, IPC Low Density)
pins: 1 VDD (power), 2 1RA (in), 3 1DY (out), 4 2RA (in), 5 2DY (out), 6 3RA (in), 7 3DY (out), 8 VSS (power), 9 GND (power), 10 3DA (in), 11 3RY (out), 12 2DA (in), 13 2RY (out), 14 1DA (in), 15 1RY (out), 16 VCC (power)

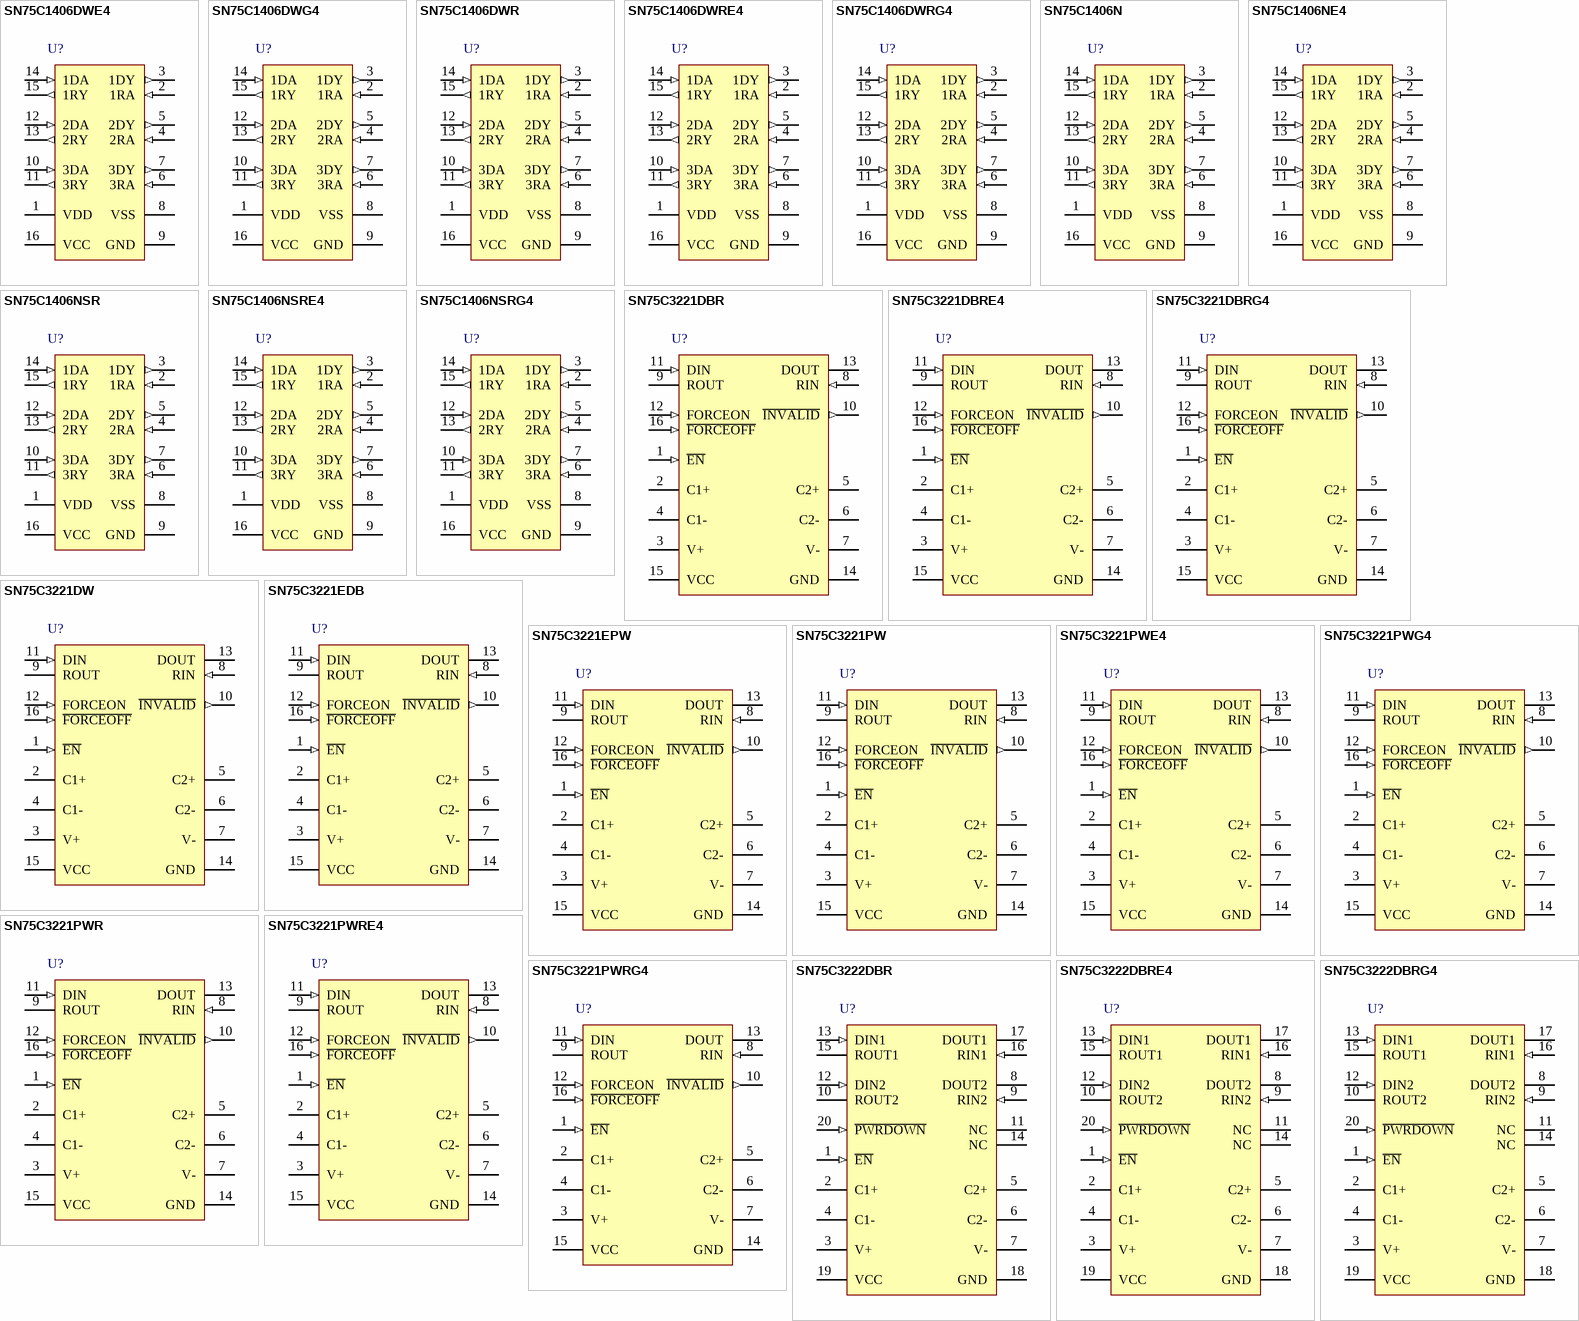
[diagram p31: symbols SN75C1406DWE4 to SN75C3222DBRG4]

## SN75C1406DWE4
designator U?
Triple Low-Power Driver / Receiver, 0 to 70 degC, 16-Pin SOIC (DW), Green (RoHS & no Sb/Br); SubFamily: RS-232; Drivers Per Package: 3; Supply Voltage(s)(V): +/-12.0 & 5.0; ESD HBM(kV): +/-2; ICC(Max)(mA): +/-0.25; RS-232: TRUE; DatasheetVersion: SLLS148E; PackageVersion: revG, Jan-2011; PackageReference: DW16; PackageDescription: 16-Pin Small Outline Integrated Circuit, 10.3 x 7.5 mm, Pitch 1.27 mm Pitch; Receivers Per Package: 3; ComponentLink1Description: Manufacturer URL; ComponentLink1URL: www.ti.com; ComponentLink2Description: Datasheet; ComponentLink2URL: http://www.ti.com/general/docs/lit/getliterature.tsp?genericPartNumber=SN75C1406&fileType=pdf; ComponentLink3Description: Package Specification; ComponentLink3URL: http://www.ti.com/litv/pdf/mpds173a
footprint TI-DW16_N (SOIC, 16-Leads, Body 10.3x7.5mm, Pitch 1.27mm, IPC Medium Density)
footprint TI-DW16_L (SOIC, 16-Leads, Body 10.3x7.5mm, Pitch 1.27mm, IPC High Density)
footprint TI-DW16_M (SOIC, 16-Leads, Body 10.3x7.5mm, Pitch 1.27mm, IPC Low Density)
pins: 1 VDD (power), 2 1RA (in), 3 1DY (out), 4 2RA (in), 5 2DY (out), 6 3RA (in), 7 3DY (out), 8 VSS (power), 9 GND (power), 10 3DA (in), 11 3RY (out), 12 2DA (in), 13 2RY (out), 14 1DA (in), 15 1RY (out), 16 VCC (power)

## SN75C1406DWG4
designator U?
Triple Low-Power Driver / Receiver, 0 to 70 degC, 16-Pin SOIC (DW), Green (RoHS & no Sb/Br); SubFamily: RS-232; Drivers Per Package: 3; Supply Voltage(s)(V): +/-12.0 & 5.0; ESD HBM(kV): +/-2; ICC(Max)(mA): +/-0.25; RS-232: TRUE; DatasheetVersion: SLLS148E; PackageVersion: revG, Jan-2011; PackageReference: DW16; PackageDescription: 16-Pin Small Outline Integrated Circuit, 10.3 x 7.5 mm, Pitch 1.27 mm Pitch; Receivers Per Package: 3; ComponentLink1Description: Manufacturer URL; ComponentLink1URL: www.ti.com; ComponentLink2Description: Datasheet; ComponentLink2URL: http://www.ti.com/general/docs/lit/getliterature.tsp?genericPartNumber=SN75C1406&fileType=pdf; ComponentLink3Description: Package Specification; ComponentLink3URL: http://www.ti.com/litv/pdf/mpds173a
footprint TI-DW16_N (SOIC, 16-Leads, Body 10.3x7.5mm, Pitch 1.27mm, IPC Medium Density)
footprint TI-DW16_L (SOIC, 16-Leads, Body 10.3x7.5mm, Pitch 1.27mm, IPC High Density)
footprint TI-DW16_M (SOIC, 16-Leads, Body 10.3x7.5mm, Pitch 1.27mm, IPC Low Density)
pins: 1 VDD (power), 2 1RA (in), 3 1DY (out), 4 2RA (in), 5 2DY (out), 6 3RA (in), 7 3DY (out), 8 VSS (power), 9 GND (power), 10 3DA (in), 11 3RY (out), 12 2DA (in), 13 2RY (out), 14 1DA (in), 15 1RY (out), 16 VCC (power)

## SN75C1406DWR
designator U?
Triple Low-Power Driver / Receiver, 0 to 70 degC, 16-Pin SOIC (DW), Green (RoHS & no Sb/Br); SubFamily: RS-232; Drivers Per Package: 3; Supply Voltage(s)(V): +/-12.0 & 5.0; ESD HBM(kV): +/-2; ICC(Max)(mA): +/-0.25; RS-232: TRUE; DatasheetVersion: SLLS148E; PackageVersion: revG, Jan-2011; PackageReference: DW16; PackageDescription: 16-Pin Small Outline Integrated Circuit, 10.3 x 7.5 mm, Pitch 1.27 mm Pitch; Receivers Per Package: 3; ComponentLink1Description: Manufacturer URL; ComponentLink1URL: www.ti.com; ComponentLink2Description: Datasheet; ComponentLink2URL: http://www.ti.com/general/docs/lit/getliterature.tsp?genericPartNumber=SN75C1406&fileType=pdf; ComponentLink3Description: Package Specification; ComponentLink3URL: http://www.ti.com/litv/pdf/mpds173a
footprint TI-DW16_N (SOIC, 16-Leads, Body 10.3x7.5mm, Pitch 1.27mm, IPC Medium Density)
footprint TI-DW16_L (SOIC, 16-Leads, Body 10.3x7.5mm, Pitch 1.27mm, IPC High Density)
footprint TI-DW16_M (SOIC, 16-Leads, Body 10.3x7.5mm, Pitch 1.27mm, IPC Low Density)
pins: 1 VDD (power), 2 1RA (in), 3 1DY (out), 4 2RA (in), 5 2DY (out), 6 3RA (in), 7 3DY (out), 8 VSS (power), 9 GND (power), 10 3DA (in), 11 3RY (out), 12 2DA (in), 13 2RY (out), 14 1DA (in), 15 1RY (out), 16 VCC (power)

## SN75C1406DWRE4
designator U?
Triple Low-Power Driver / Receiver, 0 to 70 degC, 16-Pin SOIC (DW), Green (RoHS & no Sb/Br); SubFamily: RS-232; Drivers Per Package: 3; Supply Voltage(s)(V): +/-12.0 & 5.0; ESD HBM(kV): +/-2; ICC(Max)(mA): +/-0.25; RS-232: TRUE; DatasheetVersion: SLLS148E; PackageVersion: revG, Jan-2011; PackageReference: DW16; PackageDescription: 16-Pin Small Outline Integrated Circuit, 10.3 x 7.5 mm, Pitch 1.27 mm Pitch; Receivers Per Package: 3; ComponentLink1Description: Manufacturer URL; ComponentLink1URL: www.ti.com; ComponentLink2Description: Datasheet; ComponentLink2URL: http://www.ti.com/general/docs/lit/getliterature.tsp?genericPartNumber=SN75C1406&fileType=pdf; ComponentLink3Description: Package Specification; ComponentLink3URL: http://www.ti.com/litv/pdf/mpds173a
footprint TI-DW16_N (SOIC, 16-Leads, Body 10.3x7.5mm, Pitch 1.27mm, IPC Medium Density)
footprint TI-DW16_L (SOIC, 16-Leads, Body 10.3x7.5mm, Pitch 1.27mm, IPC High Density)
footprint TI-DW16_M (SOIC, 16-Leads, Body 10.3x7.5mm, Pitch 1.27mm, IPC Low Density)
pins: 1 VDD (power), 2 1RA (in), 3 1DY (out), 4 2RA (in), 5 2DY (out), 6 3RA (in), 7 3DY (out), 8 VSS (power), 9 GND (power), 10 3DA (in), 11 3RY (out), 12 2DA (in), 13 2RY (out), 14 1DA (in), 15 1RY (out), 16 VCC (power)

## SN75C1406DWRG4
designator U?
Triple Low-Power Driver / Receiver, 0 to 70 degC, 16-Pin SOIC (DW), Green (RoHS & no Sb/Br); SubFamily: RS-232; Drivers Per Package: 3; Supply Voltage(s)(V): +/-12.0 & 5.0; ESD HBM(kV): +/-2; ICC(Max)(mA): +/-0.25; RS-232: TRUE; DatasheetVersion: SLLS148E; PackageVersion: revG, Jan-2011; PackageReference: DW16; PackageDescription: 16-Pin Small Outline Integrated Circuit, 10.3 x 7.5 mm, Pitch 1.27 mm Pitch; Receivers Per Package: 3; ComponentLink1Description: Manufacturer URL; ComponentLink1URL: www.ti.com; ComponentLink2Description: Datasheet; ComponentLink2URL: http://www.ti.com/general/docs/lit/getliterature.tsp?genericPartNumber=SN75C1406&fileType=pdf; ComponentLink3Description: Package Specification; ComponentLink3URL: http://www.ti.com/litv/pdf/mpds173a
footprint TI-DW16_N (SOIC, 16-Leads, Body 10.3x7.5mm, Pitch 1.27mm, IPC Medium Density)
footprint TI-DW16_L (SOIC, 16-Leads, Body 10.3x7.5mm, Pitch 1.27mm, IPC High Density)
footprint TI-DW16_M (SOIC, 16-Leads, Body 10.3x7.5mm, Pitch 1.27mm, IPC Low Density)
pins: 1 VDD (power), 2 1RA (in), 3 1DY (out), 4 2RA (in), 5 2DY (out), 6 3RA (in), 7 3DY (out), 8 VSS (power), 9 GND (power), 10 3DA (in), 11 3RY (out), 12 2DA (in), 13 2RY (out), 14 1DA (in), 15 1RY (out), 16 VCC (power)

## SN75C1406N
designator U?
Triple Low-Power Driver / Receiver, 0 to 70 degC, 16-Pin PDIP (N), Pb-Free (RoHS); SubFamily: RS-232; Drivers Per Package: 3; Supply Voltage(s)(V): +/-12.0 & 5.0; ESD HBM(kV): +/-2; ICC(Max)(mA): +/-0.25; RS-232: TRUE; DatasheetVersion: SLLS148E; PackageVersion: revE, Dec-2002; PackageReference: N16; PackageDescription: 16-Pin Plastic Dual-In-Line Package, Row Spacing 7.62 mm, Pitch 2.54 mm; Receivers Per Package: 3; ComponentLink1Description: Manufacturer URL; ComponentLink1URL: www.ti.com; ComponentLink2Description: Datasheet; ComponentLink2URL: http://www.ti.com/general/docs/lit/getliterature.tsp?genericPartNumber=SN75C1406&fileType=pdf; ComponentLink3Description: Package Specification; ComponentLink3URL: http://www.ti.com/litv/pdf/mpdi002c
footprint TI-N16 (DIP, 16-Leads, Row Spacing 7.62mm, Pitch 2.54mm, Body 19.3x6.4mm)
pins: 1 VDD (power), 2 1RA (in), 3 1DY (out), 4 2RA (in), 5 2DY (out), 6 3RA (in), 7 3DY (out), 8 VSS (power), 9 GND (power), 10 3DA (in), 11 3RY (out), 12 2DA (in), 13 2RY (out), 14 1DA (in), 15 1RY (out), 16 VCC (power)

## SN75C1406NE4
designator U?
Triple Low-Power Driver / Receiver, 0 to 70 degC, 16-Pin PDIP (N), Pb-Free (RoHS); SubFamily: RS-232; Drivers Per Package: 3; Supply Voltage(s)(V): +/-12.0 & 5.0; ESD HBM(kV): +/-2; ICC(Max)(mA): +/-0.25; RS-232: TRUE; DatasheetVersion: SLLS148E; PackageVersion: revE, Dec-2002; PackageReference: N16; PackageDescription: 16-Pin Plastic Dual-In-Line Package, Row Spacing 7.62 mm, Pitch 2.54 mm; Receivers Per Package: 3; ComponentLink1Description: Manufacturer URL; ComponentLink1URL: www.ti.com; ComponentLink2Description: Datasheet; ComponentLink2URL: http://www.ti.com/general/docs/lit/getliterature.tsp?genericPartNumber=SN75C1406&fileType=pdf; ComponentLink3Description: Package Specification; ComponentLink3URL: http://www.ti.com/litv/pdf/mpdi002c
footprint TI-N16 (DIP, 16-Leads, Row Spacing 7.62mm, Pitch 2.54mm, Body 19.3x6.4mm)
pins: 1 VDD (power), 2 1RA (in), 3 1DY (out), 4 2RA (in), 5 2DY (out), 6 3RA (in), 7 3DY (out), 8 VSS (power), 9 GND (power), 10 3DA (in), 11 3RY (out), 12 2DA (in), 13 2RY (out), 14 1DA (in), 15 1RY (out), 16 VCC (power)

## SN75C1406NSR
designator U?
Triple Low-Power Driver / Receiver, 0 to 70 degC, 16-Pin SO (NS), Green (RoHS & no Sb/Br); SubFamily: RS-232; Drivers Per Package: 3; Supply Voltage(s)(V): +/-12.0 & 5.0; ESD HBM(kV): +/-2; ICC(Max)(mA): +/-0.25; RS-232: TRUE; DatasheetVersion: SLLS148E; PackageVersion: revC, Mar-2003; PackageReference: NS16; PackageDescription: 16-Pin Plastic Small Outline Package, 10.2 x 5.3 mm, Pitch 1.27 mm Pitch; Receivers Per Package: 3; ComponentLink1Description: Manufacturer URL; ComponentLink1URL: www.ti.com; ComponentLink2Description: Datasheet; ComponentLink2URL: http://www.ti.com/general/docs/lit/getliterature.tsp?genericPartNumber=SN75C1406&fileType=pdf; ComponentLink3Description: Package Specification; ComponentLink3URL: http://www.ti.com/litv/pdf/msop002a
footprint TI-NS16_N (SOP, 16-Leads, Body 10.2x5.3mm, Pitch 1.27mm, IPC Medium Density)
footprint TI-NS16_L (SOP, 16-Leads, Body 10.2x5.3mm, Pitch 1.27mm, IPC High Density)
footprint TI-NS16_M (SOP, 16-Leads, Body 10.2x5.3mm, Pitch 1.27mm, IPC Low Density)
pins: 1 VDD (power), 2 1RA (in), 3 1DY (out), 4 2RA (in), 5 2DY (out), 6 3RA (in), 7 3DY (out), 8 VSS (power), 9 GND (power), 10 3DA (in), 11 3RY (out), 12 2DA (in), 13 2RY (out), 14 1DA (in), 15 1RY (out), 16 VCC (power)

## SN75C1406NSRE4
designator U?
Triple Low-Power Driver / Receiver, 0 to 70 degC, 16-Pin SO (NS), Green (RoHS & no Sb/Br); SubFamily: RS-232; Drivers Per Package: 3; Supply Voltage(s)(V): +/-12.0 & 5.0; ESD HBM(kV): +/-2; ICC(Max)(mA): +/-0.25; RS-232: TRUE; DatasheetVersion: SLLS148E; PackageVersion: revC, Mar-2003; PackageReference: NS16; PackageDescription: 16-Pin Plastic Small Outline Package, 10.2 x 5.3 mm, Pitch 1.27 mm Pitch; Receivers Per Package: 3; ComponentLink1Description: Manufacturer URL; ComponentLink1URL: www.ti.com; ComponentLink2Description: Datasheet; ComponentLink2URL: http://www.ti.com/general/docs/lit/getliterature.tsp?genericPartNumber=SN75C1406&fileType=pdf; ComponentLink3Description: Package Specification; ComponentLink3URL: http://www.ti.com/litv/pdf/msop002a
footprint TI-NS16_N (SOP, 16-Leads, Body 10.2x5.3mm, Pitch 1.27mm, IPC Medium Density)
footprint TI-NS16_L (SOP, 16-Leads, Body 10.2x5.3mm, Pitch 1.27mm, IPC High Density)
footprint TI-NS16_M (SOP, 16-Leads, Body 10.2x5.3mm, Pitch 1.27mm, IPC Low Density)
pins: 1 VDD (power), 2 1RA (in), 3 1DY (out), 4 2RA (in), 5 2DY (out), 6 3RA (in), 7 3DY (out), 8 VSS (power), 9 GND (power), 10 3DA (in), 11 3RY (out), 12 2DA (in), 13 2RY (out), 14 1DA (in), 15 1RY (out), 16 VCC (power)

## SN75C1406NSRG4
designator U?
Triple Low-Power Driver / Receiver, 0 to 70 degC, 16-Pin SO (NS), Green (RoHS & no Sb/Br); SubFamily: RS-232; Drivers Per Package: 3; Supply Voltage(s)(V): +/-12.0 & 5.0; ESD HBM(kV): +/-2; ICC(Max)(mA): +/-0.25; RS-232: TRUE; DatasheetVersion: SLLS148E; PackageVersion: revC, Mar-2003; PackageReference: NS16; PackageDescription: 16-Pin Plastic Small Outline Package, 10.2 x 5.3 mm, Pitch 1.27 mm Pitch; Receivers Per Package: 3; ComponentLink1Description: Manufacturer URL; ComponentLink1URL: www.ti.com; ComponentLink2Description: Datasheet; ComponentLink2URL: http://www.ti.com/general/docs/lit/getliterature.tsp?genericPartNumber=SN75C1406&fileType=pdf; ComponentLink3Description: Package Specification; ComponentLink3URL: http://www.ti.com/litv/pdf/msop002a
footprint TI-NS16_N (SOP, 16-Leads, Body 10.2x5.3mm, Pitch 1.27mm, IPC Medium Density)
footprint TI-NS16_L (SOP, 16-Leads, Body 10.2x5.3mm, Pitch 1.27mm, IPC High Density)
footprint TI-NS16_M (SOP, 16-Leads, Body 10.2x5.3mm, Pitch 1.27mm, IPC Low Density)
pins: 1 VDD (power), 2 1RA (in), 3 1DY (out), 4 2RA (in), 5 2DY (out), 6 3RA (in), 7 3DY (out), 8 VSS (power), 9 GND (power), 10 3DA (in), 11 3RY (out), 12 2DA (in), 13 2RY (out), 14 1DA (in), 15 1RY (out), 16 VCC (power)

## SN75C3221DBR
designator U?
3-V to 5.5-V Single-Channel RS-232 Compatible Line Driver / Receiver, 0 to 70 degC, 16-Pin SSOP (DB), Green (RoHS & no Sb/Br); Drivers Per Package: 1; Supply Voltage(s)(V): 3.3 or 5.0; ESD HBM(kV): +/-15; Single Supply: TRUE; DatasheetVersion: SLLS351E; PackageVersion: revE, Dec-2001; PackageReference: DB16; PackageDescription: 16-Pin Plastic Small Outline Package, 6.2 x 5.3 mm Body, 0.65 mm Pitch; SubFamily: RS-232; Receivers Per Package: 1; ICC(Max)(mA): 1; RS-232: TRUE; ComponentLink1Description: Manufacturer URL; ComponentLink1URL: www.ti.com; ComponentLink2Description: Datasheet; ComponentLink2URL: http://www.ti.com/general/docs/lit/getliterature.tsp?genericPartNumber=SN75C3221&fileType=pdf; ComponentLink3Description: Package Specification; ComponentLink3URL: http://www.ti.com/litv/pdf/msso002e
footprint TI-DB16_N (SOP, 16-Leads, Body 6.2x5.3mm, Pitch 0.65mm, IPC Medium Density)
footprint TI-DB16_L (SOP, 16-Leads, Body 6.2x5.3mm, Pitch 0.65mm, IPC High Density)
footprint TI-DB16_M (SOP, 16-Leads, Body 6.2x5.3mm, Pitch 0.65mm, IPC Low Density)
pins: 1 ~{EN} (in), 2 C1+, 3 V+ (power), 4 C1-, 5 C2+, 6 C2-, 7 V- (power), 8 RIN (in), 9 ROUT (hiz), 10 ~{INVALID} (out), 11 DIN (in), 12 FORCEON (in), 13 DOUT (hiz), 14 GND (power), 15 VCC (power), 16 ~{FORCEOFF} (in)

## SN75C3221DBRE4
designator U?
3-V to 5.5-V Single-Channel RS-232 Compatible Line Driver / Receiver, 0 to 70 degC, 16-Pin SSOP (DB), Green (RoHS & no Sb/Br); Drivers Per Package: 1; Supply Voltage(s)(V): 3.3 or 5.0; ESD HBM(kV): +/-15; Single Supply: TRUE; DatasheetVersion: SLLS351E; PackageVersion: revE, Dec-2001; PackageReference: DB16; PackageDescription: 16-Pin Plastic Small Outline Package, 6.2 x 5.3 mm Body, 0.65 mm Pitch; SubFamily: RS-232; Receivers Per Package: 1; ICC(Max)(mA): 1; RS-232: TRUE; ComponentLink1Description: Manufacturer URL; ComponentLink1URL: www.ti.com; ComponentLink2Description: Datasheet; ComponentLink2URL: http://www.ti.com/general/docs/lit/getliterature.tsp?genericPartNumber=SN75C3221&fileType=pdf; ComponentLink3Description: Package Specification; ComponentLink3URL: http://www.ti.com/litv/pdf/msso002e
footprint TI-DB16_N (SOP, 16-Leads, Body 6.2x5.3mm, Pitch 0.65mm, IPC Medium Density)
footprint TI-DB16_L (SOP, 16-Leads, Body 6.2x5.3mm, Pitch 0.65mm, IPC High Density)
footprint TI-DB16_M (SOP, 16-Leads, Body 6.2x5.3mm, Pitch 0.65mm, IPC Low Density)
pins: 1 ~{EN} (in), 2 C1+, 3 V+ (power), 4 C1-, 5 C2+, 6 C2-, 7 V- (power), 8 RIN (in), 9 ROUT (hiz), 10 ~{INVALID} (out), 11 DIN (in), 12 FORCEON (in), 13 DOUT (hiz), 14 GND (power), 15 VCC (power), 16 ~{FORCEOFF} (in)